# Altium integrated library BB Interface Current Loop Receiver.IntLib: 4 symbols
Pins are listed as number, name and electrical type; pins without a type are passive.

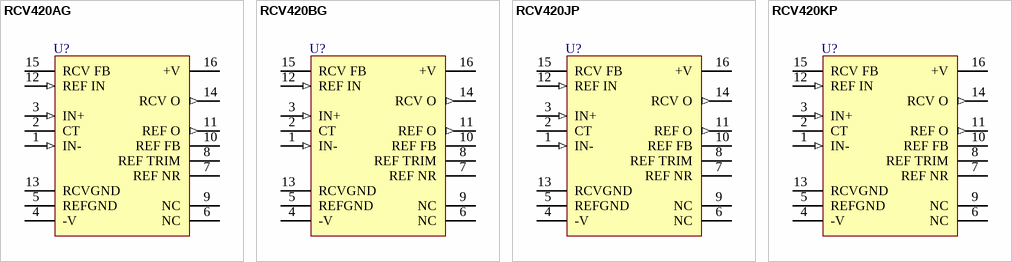
[diagram p0: symbols RCV420AG to RCV420KP]

## RCV420AG
designator U?
Precision 4mA to 20mA Current Loop Receiver; Note: Pins 6 and 9 are No internal Connection (NC) pins.; Published: 8-Jun-2000; LatestRevisionDate: 06-Jun-2005; LatestRevisionNote: Stylized 3D Model Added.; DatasheetVersion: 1996~1997; PackageVersion: revD; PackageReference: 109D; Publisher: Altium Limited; PackageDescription: DIP; 16 Leads; Row Spacing 7.62 mm; Pitch 2.54 mm; ComponentLink1Description: Manufacturer Link; ComponentLink1URL: http://www.ti.com/; ComponentLink2Description: Datasheet; ComponentLink2URL: http://www-s.ti.com/sc/ds/rcv420.pdf
footprint 109D (DIP; 16 Leads; Row Spacing 7.62 mm; Pitch 2.54 mm)
3D model ZZ180 (DIP; 16 Leads; Row Spacing 7.62 mm; Pitch 2.54 mm)
pins: 1 IN- (in), 2 CT, 3 IN+ (in), 4 -V (power), 5 REFGND (power), 6 NC, 7 REF NR, 8 REF TRIM, 9 NC, 10 REF FB, 11 REF O (out), 12 REF IN (in), 13 RCVGND (power), 14 RCV O (out), 15 RCV FB, 16 +V (power)

## RCV420BG
designator U?
Precision 4mA to 20mA Current Loop Receiver; Note: Pins 6 and 9 are No internal Connection (NC) pins.; Published: 8-Jun-2000; LatestRevisionDate: 06-Jun-2005; LatestRevisionNote: Stylized 3D Model Added.; DatasheetVersion: 1996~1997; PackageVersion: revD; PackageReference: 109D; Publisher: Altium Limited; PackageDescription: DIP; 16 Leads; Row Spacing 7.62 mm; Pitch 2.54 mm; ComponentLink1Description: Manufacturer Link; ComponentLink1URL: http://www.ti.com/; ComponentLink2Description: Datasheet; ComponentLink2URL: http://www-s.ti.com/sc/ds/rcv420.pdf
footprint 109D (DIP; 16 Leads; Row Spacing 7.62 mm; Pitch 2.54 mm)
3D model ZZ180 (DIP; 16 Leads; Row Spacing 7.62 mm; Pitch 2.54 mm)
pins: 1 IN- (in), 2 CT, 3 IN+ (in), 4 -V (power), 5 REFGND (power), 6 NC, 7 REF NR, 8 REF TRIM, 9 NC, 10 REF FB, 11 REF O (out), 12 REF IN (in), 13 RCVGND (power), 14 RCV O (out), 15 RCV FB, 16 +V (power)

## RCV420JP
designator U?
Precision 4mA to 20mA Current Loop Receiver; Note: Pins 6 and 9 are No internal Connection (NC) pins.; Published: 8-Jun-2000; LatestRevisionDate: 06-Jun-2005; LatestRevisionNote: Stylized 3D Model Added.; DatasheetVersion: Oct-1997; PackageVersion: revF; PackageReference: ZZ180; Publisher: Altium Limited; PackageDescription: DIP, Plastic; 16 Leads; Row Spacing 7.62 mm; Pitch 2.54 mm; Code_JEDEC: MS-001-BB; ComponentLink1Description: Manufacturer Link; ComponentLink1URL: http://www.ti.com/; ComponentLink2Description: Datasheet; ComponentLink2URL: http://www-s.ti.com/sc/ds/RCV420.pdf
footprint ZZ180 (DIP, Plastic; 16 Leads; Row Spacing 7.62 mm; Pitch 2.54 mm)
3D model ZZ180 (DIP, Plastic; 16 Leads; Row Spacing 7.62 mm; Pitch 2.54 mm)
pins: 1 IN- (in), 2 CT, 3 IN+ (in), 4 -V (power), 5 REFGND (power), 6 NC, 7 REF NR, 8 REF TRIM, 9 NC, 10 REF FB, 11 REF O (out), 12 REF IN (in), 13 RCVGND (power), 14 RCV O (out), 15 RCV FB, 16 +V (power)

## RCV420KP
designator U?
Precision 4mA to 20mA Current Loop Receiver; Note: Pins 6 and 9 are No internal Connection (NC) pins.; Published: 8-Jun-2000; LatestRevisionDate: 06-Jun-2005; LatestRevisionNote: Stylized 3D Model Added.; DatasheetVersion: Oct-1997; PackageVersion: revF; PackageReference: ZZ180; Publisher: Altium Limited; PackageDescription: DIP, Plastic; 16 Leads; Row Spacing 7.62 mm; Pitch 2.54 mm; Code_JEDEC: MS-001-BB; ComponentLink1Description: Manufacturer Link; ComponentLink1URL: http://www.ti.com/; ComponentLink2Description: Datasheet; ComponentLink2URL: http://www-s.ti.com/sc/ds/RCV420.pdf
footprint ZZ180 (DIP, Plastic; 16 Leads; Row Spacing 7.62 mm; Pitch 2.54 mm)
3D model ZZ180 (DIP, Plastic; 16 Leads; Row Spacing 7.62 mm; Pitch 2.54 mm)
pins: 1 IN- (in), 2 CT, 3 IN+ (in), 4 -V (power), 5 REFGND (power), 6 NC, 7 REF NR, 8 REF TRIM, 9 NC, 10 REF FB, 11 REF O (out), 12 REF IN (in), 13 RCVGND (power), 14 RCV O (out), 15 RCV FB, 16 +V (power)